# EAGLE library part CPL-CON-USB-A-THRU-VERT (library TinWhiskers)
Connector: USB-A, Receptacle, 9-Pin, (FCI: 10117836-002LF); Package: Thru-Hole + Boardlock, Vertical; Datasheet: http://portal.fciconnect.com/Comergent//fci/drawing/10117836.pdf
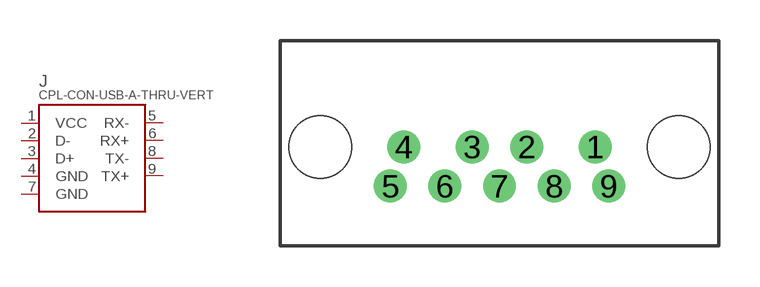
[diagram p44: symbol with the pads of USB-A(THRU)-VERT; footprint USB-A(THRU)-VERT]

Designator prefix J

## CPL-CON-USB-A-THRU-VERT  [USB-A(THRU)-VERT]
1  VCC
2  D-
3  D+
4  GND
5  RX-
6  RX+
7  GND
8  TX-
9  TX+

## Footprint USB-A(THRU)-VERT (pad centres in mm)
Connector: USB-A, Receptacle, 9-Pin, (FCI: 10117836-002LF); Package: Thru-Hole + Boardlock, Vertical; Datasheet: http://portal.fciconnect.com/Comergent//fci/drawing/10117836.pdf
drill 0.7: 1 10.07,0; 2 7.57,0; 3 5.57,0; 4 3.07,0; 5 2.57,-1.44; 6 4.57,-1.44; 7 6.57,-1.44; 8 8.57,-1.44; 9 10.57,-1.44
hole 2.3 at 0,0
hole 2.3 at 13.14,0